# Altium footprint library Performance Logger1.PcbLib: 13 footprints
Each footprint in its own frame and in the unit in brackets; x right, y up, seen from the top. Pads: shape width x height; smd on the part's side, far side on the other; paste and mask are expansions set on the pad; w line width, h text height; cw(c..) or ccw(c..) is an arc to the next point about the centre after c.
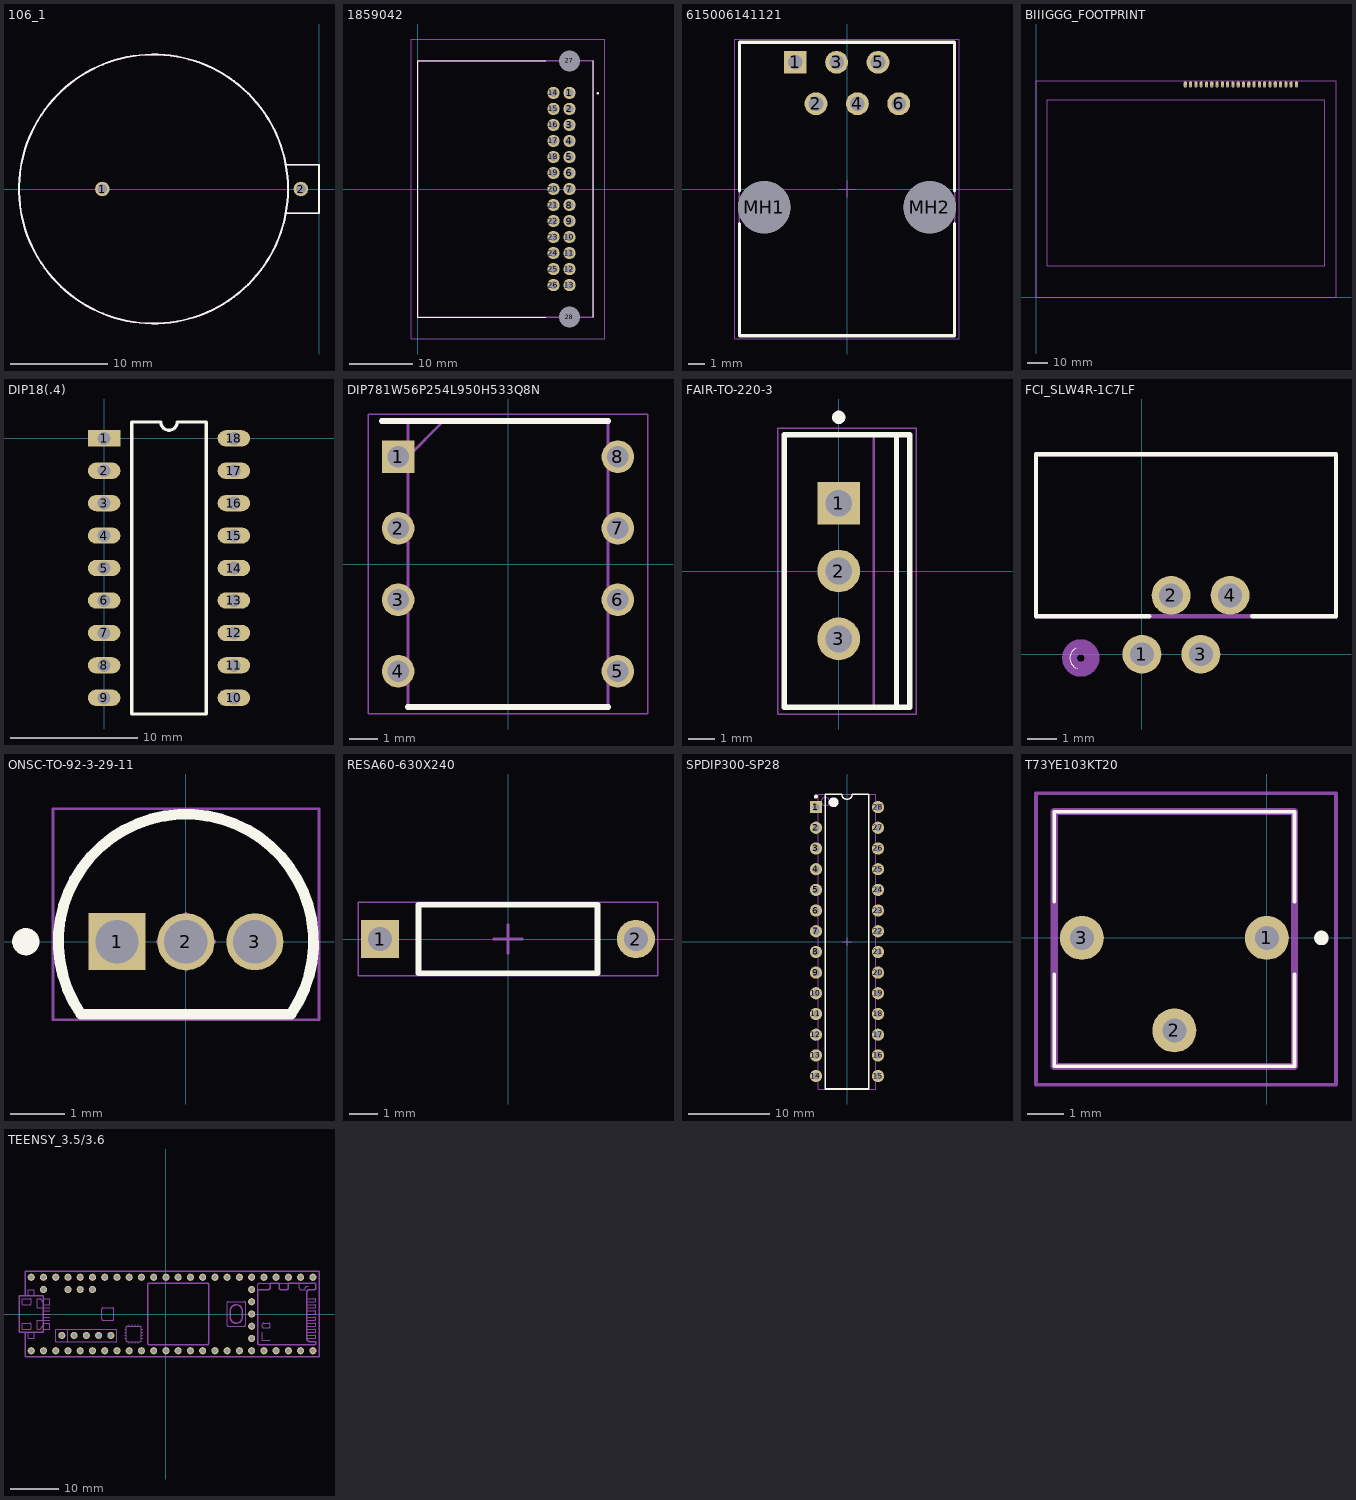
[diagram p0: the footprints below, top view; thin cyan lines are the x and y axes]

## 106_1 [mm]
pads (2):
  round 1.5 hole 1: 1(-22.365,0) 2(-1.865,0)
Top Overlay:
  circle w0.2: c-17.081,0 r13.881
  lines w0.2: -3.4,-2.5 0,-2.5 0,2.5 -3.4,2.5
Top 3D Body:
  circle w0.2: c-17.081,0 r13.881
  lines w0.2: -3.4,-2.5 0,-2.5 0,2.5 -3.4,2.5

## 1859042 [mm]
pads (28):
  round 1.95 hole 1.3: 1(24.1,15.24) 2(24.1,12.7) 3(24.1,10.16) 4(24.1,7.62) 5(24.1,5.08) 6(24.1,2.54) 7(24.1,0) 8(24.1,-2.54) 9(24.1,-5.08) 10(24.1,-7.62) 11(24.1,-10.16) 12(24.1,-12.7) 13(24.1,-15.24) 14(21.56,15.24) 15(21.56,12.7) 16(21.56,10.16) 17(21.56,7.62) 18(21.56,5.08) 19(21.56,2.54) 20(21.56,0) 21(21.56,-2.54) 22(21.56,-5.08) 23(21.56,-7.62) 24(21.56,-10.16) 25(21.56,-12.7) 26(21.56,-15.24)
  round 1.65 hole 3.3 unplated: 27(24.1,20.32) 28(24.1,-20.32)
Top Overlay:
  lines w0.1: 20.32,-20.32 0,-20.32 0,20.32 20.32,20.32 ; 27.9,-20.32 27.9,20.32
  lines w0.2: 28.6,15.1 ccw(c28.6,15.2) 28.6,15.3 ccw(c28.6,15.2) 28.6,15.1
Top 3D Body:
  lines w0.2: 0,-20.32 27.9,-20.32 27.9,20.32 0,20.32 0,-20.32
Mechanical 15:
  lines w0.1: -1,-23.795 29.7,-23.795 29.7,23.795 -1,23.795 -1,-23.795
3D body "185904-2.stp": height 16.96, standoff -3.74, extent -0.06,-24.19 27.84,24.05

## 615006141121 [mm] "Modular Jack Horizontal Plastic 6P6C Tab Down"
height 11.65
pads (8):
  rect 1.4x1.4 hole 0.9: 1(-3.175,7.77)
  round 1.4 hole 0.9: 2(-1.905,5.23) 3(-0.635,7.77) 4(0.635,5.23) 5(1.905,7.77) 6(3.175,5.23)
  round 3.2 hole 3.2 unplated: MH1(-5.08,-1.12) MH2(5.08,-1.12)
Top Overlay:
  lines w0.2: -6.6,-2.139 -6.6,-9 6.6,-9 6.6,-2.139 ; -6.6,-0.1 -6.6,9 6.6,9 6.6,-0.1
Top 3D Body:
  lines w0.1: -6.6,-9 -6.6,9 6.6,9 6.6,-9 -6.6,-9
Mechanical 15:
  lines w0.05: -0.5,0 0.5,0 ; 0,-0.5 0,0.5 ; -6.88,-9.2 -6.88,9.2 6.88,9.2 6.88,-9.2 -6.88,-9.2
3D body "615006141121.stp": height 11.73, standoff -3.22, extent -6.6,-9 6.6,9

## BIIIGGG_FOOTPRINT [mm] "BIIIGGG_FOOTPRINT"
pads (22):
  oval 1.508x3.016 / inner round 0 / far side oval 1.508x3.016 hole 1 copper offset 0,0.754: P1(125,101.46) P2(122.46,101.46) P3(119.92,101.46) P4(117.38,101.46) P5(114.84,101.46) P6(112.3,101.46) P7(109.76,101.46) P8(107.22,101.46) P9(104.68,101.46) P10(102.14,101.46) P11(99.6,101.46) P12(97.06,101.46) P13(94.52,101.46) P14(91.98,101.46) P15(89.44,101.46) P16(86.9,101.46) P17(84.36,101.46) P18(81.82,101.46) P19(79.28,101.46) P20(76.74,101.46) P21(74.2,101.46) P22(71.66,101.46)
Mechanical 8:
  lines w0.127: 0,0 0,104 144,104 144,0 0,0 ; 5.4,15.1 127.8,15.1 138.6,15.1 138.6,94.9 127.8,94.9 5.4,94.9 5.4,15.1
3D body: height 1.27, standoff 0, extent 70.899,100.7 72.421,103.729
3D body: height 1.27, standoff 0, extent 73.439,100.7 74.961,103.729
3D body: height 1.27, standoff 0, extent 75.979,100.7 77.501,103.729
3D body: height 1.27, standoff 0, extent 78.519,100.7 80.041,103.729
3D body: height 1.27, standoff 0, extent 81.059,100.7 82.581,103.729
3D body: height 1.27, standoff 0, extent 83.599,100.7 85.121,103.729
3D body: height 1.27, standoff 0, extent 86.139,100.7 87.661,103.729
3D body: height 1.27, standoff 0, extent 88.679,100.7 90.201,103.729
3D body: height 1.27, standoff 0, extent 91.219,100.7 92.741,103.729
3D body: height 1.27, standoff 0, extent 93.759,100.7 95.281,103.729
3D body: height 1.27, standoff 0, extent 96.299,100.7 97.821,103.729
3D body: height 1.27, standoff 0, extent 98.839,100.7 100.361,103.729
3D body: height 1.27, standoff 0, extent 101.379,100.7 102.901,103.729
3D body: height 1.27, standoff 0, extent 103.919,100.7 105.441,103.729
3D body: height 1.27, standoff 0, extent 106.459,100.7 107.981,103.729
3D body: height 1.27, standoff 0, extent 108.999,100.7 110.521,103.729
3D body: height 1.27, standoff 0, extent 111.539,100.7 113.061,103.729
3D body: height 1.27, standoff 0, extent 114.079,100.7 115.601,103.729
3D body: height 1.27, standoff 0, extent 116.619,100.7 118.141,103.729
3D body: height 1.27, standoff 0, extent 119.159,100.7 120.681,103.729
3D body: height 1.27, standoff 0, extent 121.699,100.7 123.221,103.729
3D body: height 1.27, standoff 0, extent 124.239,100.7 125.761,103.729
3D body "BiggDisplay.STEP": height 22.29, standoff 11.32, extent 0.222,0.013 144.222,104.013

## DIP18(.4) [mil]
pads (18):
  rect 100x50 hole 40: 1(0,0)
  oval 100x50 hole 40: 2(0,-100) 3(0,-200) 4(0,-300) 5(0,-400) 6(0,-500) 7(0,-600) 8(0,-700) 9(0,-800) 10(400,-800) 11(400,-700) 12(400,-600) 13(400,-500) 14(400,-400) 15(400,-300) 16(400,-200) 17(400,-100) 18(400,0)
Top Overlay:
  lines w10: 85,-850 85,50 175,50 ccw(c200,50) 225,50 315,50 315,-850 85,-850

## DIP781W56P254L950H533Q8N [mm]
pads (8):
  rect 1.159x1.159 hole 0.759: 1(-3.905,3.81)
  round 1.159 hole 0.759: 2(-3.905,1.27) 3(-3.905,-1.27) 4(-3.905,-3.81) 5(3.905,-3.81) 6(3.905,-1.27) 7(3.905,1.27) 8(3.905,3.81)
Top Overlay:
  lines w0.2: -4.485,5.08 3.556,5.08 ; -3.556,-5.08 3.556,-5.08
Top 3D Body:
  lines w0.1: -3.556,3.81 -2.286,5.08 ; -3.556,-5.08 -3.556,5.08 3.556,5.08 3.556,-5.08 -3.556,-5.08
Mechanical 15:
  lines w0.05: -4.957,-5.33 -4.957,5.33 4.957,5.33 4.957,-5.33 -4.957,-5.33
3D body "MCP2562FD-E_P.stp": height 5.33, standoff -3.5, extent -4.045,-4.75 4.045,4.75

## FAIR-TO-220-3 [mm] "FM, 3-Leads, Body 10.2x4.7mm, Pitch 2.54mm"
height 18.95
pads (3):
  rect 1.6x1.6 hole 1: 1(0,2.54)
  round 1.6 hole 1: 2(0,0) 3(0,-2.54)
Top Overlay:
  circle w0.25: c0,5.75 r0.125
  lines w0.2: 2.16,-5.1 2.16,5.1 ; -2.04,-5.1 2.66,-5.1 2.66,5.1 -2.04,5.1 -2.04,-5.1
Top 3D Body:
  lines w0.1: 1.31,-5.1 1.31,5.1 ; -2.04,-5.1 -2.04,5.1 2.66,5.1 2.66,-5.1 -2.04,-5.1
Mechanical 15:
  lines w0.05: -2.29,-5.35 -2.29,5.35 2.91,5.35 2.91,-5.35 -2.29,-5.35
  lines w0.1: -0.5,0 0.5,0 ; 0,-0.5 0,0.5
3D body: height 3, standoff 0, extent -0.265,1.78 0.265,3.3
3D body: height 0, standoff -1.6, extent -0.265,2.14 0.265,2.94
3D body: height 3, standoff 0, extent -0.265,-0.76 0.265,0.76
3D body: height 0, standoff -1.6, extent -0.265,-0.4 0.265,0.4
3D body: height 3, standoff 0, extent -0.265,-3.3 0.265,-1.78
3D body: height 0, standoff -1.6, extent -0.265,-2.94 0.265,-2.14
3D body: height 12.2, standoff 3, extent -2.04,-5.1 2.66,5.1
3D body: height 14.35, standoff 12.2, extent 1.31,-4.95 2.66,4.95
3D body: height 14.39, standoff 14.35, extent 1.31,0.351 2.66,4.95
3D body: height 14.39, standoff 14.35, extent 1.31,-4.95 2.66,-0.351
3D body: height 17.95, standoff 17.92, extent 1.31,0.351 2.66,4.95
3D body: height 17.95, standoff 17.92, extent 1.31,-4.95 2.66,-0.351
3D body: height 14.49, standoff 14.38, extent 1.31,0.689 2.66,4.95
3D body: height 14.49, standoff 14.38, extent 1.31,-4.95 2.66,-0.689
3D body: height 17.92, standoff 17.81, extent 1.31,0.689 2.66,4.95
3D body: height 17.92, standoff 17.81, extent 1.31,-4.95 2.66,-0.689
3D body: height 14.66, standoff 14.49, extent 1.31,1 2.66,4.95
3D body: height 14.66, standoff 14.49, extent 1.31,-4.95 2.66,-1
3D body: height 17.82, standoff 17.65, extent 1.31,1 2.66,4.95
3D body: height 17.82, standoff 17.65, extent 1.31,-4.95 2.66,-1
3D body: height 14.88, standoff 14.65, extent 1.31,1.273 2.66,4.95
3D body: height 14.88, standoff 14.65, extent 1.31,-4.95 2.66,-1.273
3D body: height 17.65, standoff 17.42, extent 1.31,1.273 2.66,4.95
3D body: height 17.65, standoff 17.42, extent 1.31,-4.95 2.66,-1.273
3D body: height 15.15, standoff 14.88, extent 1.31,1.497 2.66,4.95
3D body: height 15.15, standoff 14.88, extent 1.31,-4.95 2.66,-1.497
3D body: height 17.43, standoff 17.15, extent 1.31,1.497 2.66,4.95
3D body: height 17.43, standoff 17.15, extent 1.31,-4.95 2.66,-1.497
3D body: height 15.47, standoff 15.15, extent 1.31,1.663 2.66,4.95
3D body: height 15.47, standoff 15.15, extent 1.31,-4.95 2.66,-1.663
3D body: height 17.16, standoff 16.84, extent 1.31,1.663 2.66,4.95
3D body: height 17.16, standoff 16.84, extent 1.31,-4.95 2.66,-1.663
3D body: height 15.8, standoff 15.46, extent 1.31,1.765 2.66,4.95
3D body: height 15.8, standoff 15.46, extent 1.31,-4.95 2.66,-1.765
3D body: height 16.84, standoff 16.5, extent 1.31,1.765 2.66,4.95
3D body: height 16.84, standoff 16.5, extent 1.31,-4.95 2.66,-1.765
3D body: height 16.15, standoff 15.8, extent 1.31,1.8 2.66,4.95
3D body: height 16.15, standoff 15.8, extent 1.31,-4.95 2.66,-1.8
3D body: height 16.51, standoff 16.15, extent 1.31,1.8 2.66,4.95
3D body: height 16.51, standoff 16.15, extent 1.31,-4.95 2.66,-1.8
3D body: height 18.95, standoff 17.95, extent 1.31,-4.95 2.66,4.95

## FCI_SLW4R-1C7LF [mil]
pads (4):
  round 52 hole 32: 1(0,0) 2(39,79) 3(79,0) 4(118,79)
Top Overlay:
  lines w0: -88.95,8.03 ccw(c-81.99,-5.05) -87.06,-18.98
  lines w6: 10,51 -142,51 -142,268 260,268 260,51 148,51
Top 3D Body:
  lines w6: -142,51 -142,268 260,268 260,51 -142,51
  lines w20: -97,-5 cw(c-82,-5) -67,-5 cw(c-82,-5) -97,-5

## ONSC-TO-92-3-29-11 [mm] "TO, 3-Leads, Body Dia 4.7mm, Pitch 1.27mm"
height 7.87
pads (3):
  rect 1.05x1.05 hole 0.8: 1(-1.27,0)
  round 1.05 hole 0.8: 2(0,0) 3(1.27,0)
Top Overlay:
  circle w0.25: c-2.95,0 r0.125
  lines w0.2: -1.934,-1.335 cw(c0,0) 1.934,-1.335 -1.934,-1.335
Top 3D Body:
  lines w0.1: -1.934,-1.335 cw(c0,0) 1.934,-1.335 -1.934,-1.335
Mechanical 15:
  lines w0.05: -2.45,-1.435 -2.45,2.45 2.45,2.45 2.45,-1.435 -2.45,-1.435
  lines w0.1: -0.5,0 0.5,0 ; 0,-0.5 0,0.5
3D body: height 7.87, standoff 2.54, extent -2.349,-1.334 2.357,2.359

## RESA60-630X240 [mm] "Axial Resistor, 2-Leads, Dia 2.4mm, Body Length 6.3mm"
height 2.6
pads (2):
  rect 1.35x1.35 hole 0.85: 1(-4.5,0)
  round 1.35 hole 0.85: 2(4.5,0)
Top Overlay:
  lines w0.2: -3.15,-1.2 3.15,-1.2 3.15,1.2 -3.15,1.2 -3.15,-1.2
Top 3D Body:
  lines w0.1: -3.15,-1.2 -3.15,1.2 3.15,1.2 3.15,-1.2 -3.15,-1.2
Mechanical 15:
  lines w0.05: -5.275,-1.3 5.275,-1.3 5.275,1.3 -5.275,1.3 -5.275,-1.3
  lines w0.1: -0.5,0 0.5,0 ; 0,-0.5 0,0.5
3D body: height 2.4, standoff 0, extent -3.15,-1.2 3.15,1.2

## SPDIP300-SP28 [mm] "DIP, 28-Pin, Row Spacing 7.62 mm, Pitch 2.54 mm"
height 5.08
pads (28):
  rect 1.5x1.5 hole 0.9: 1(-3.81,16.51)
  round 1.5 hole 0.9: 2(-3.81,13.97) 3(-3.81,11.43) 4(-3.81,8.89) 5(-3.81,6.35) 6(-3.81,3.81) 7(-3.81,1.27) 8(-3.81,-1.27) 9(-3.81,-3.81) 10(-3.81,-6.35) 11(-3.81,-8.89) 12(-3.81,-11.43) 13(-3.81,-13.97) 14(-3.81,-16.51) 15(3.81,-16.51) 16(3.81,-13.97) 17(3.81,-11.43) 18(3.81,-8.89) 19(3.81,-6.35) 20(3.81,-3.81) 21(3.81,-1.27) 22(3.81,1.27) 23(3.81,3.81) 24(3.81,6.35) 25(3.81,8.89) 26(3.81,11.43) 27(3.81,13.97) 28(3.81,16.51)
Top Overlay:
  circle w0.6: c-1.65,17.1 r0.3
  circle w0.25: c-3.81,17.81 r0.125
  lines w0.2: -2.65,-18.1 2.65,-18.1 2.65,18.1 0.635,18.1 cw(c0,18.1) -0.635,18.1 -2.65,18.1 -2.65,-18.1
Top 3D Body:
  circle w0.1: c-2.65,17.2 r0.5
  lines w0.1: -3.55,-18.1 3.55,-18.1 3.55,18.1 -3.55,18.1 -3.55,-18.1
Mechanical 15:
  lines w0.1: -0.5,0 0.5,0 ; 0,-0.5 0,0.5
3D body: height 5.33, standoff 0, extent -3.55,-18.1 3.55,18.1

## T73YE103KT20 [mm]
pads (3):
  round 1.21 hole 0.66: 1(0,0) 2(-2.54,-2.54) 3(-5.08,0)
Top Overlay:
  lines w0.1: -5.84,-1 -5.84,-3.53 0.76,-3.53 0.76,-1 ; -5.84,1 -5.84,3.47 0.76,3.47 0.76,1
  lines w0.2: 1.5,-0.1 ccw(c1.5,0) 1.5,0.1 ccw(c1.5,0) 1.5,-0.1
Top 3D Body:
  lines w0.2: -5.84,-3.53 -5.84,3.47 0.76,3.47 0.76,-3.53 -5.84,-3.53
Mechanical 15:
  lines w0.1: -6.34,-4.03 -6.34,3.97 1.9,3.97 1.9,-4.03 -6.34,-4.03
3D body "T73YE103KT20.stp": height 4.8, standoff -5, extent -5.84,-3.53 0.76,3.47

## TEENSY_3.5/3.6 [mil] "TEENSY_3.5/3.6"
pads (62):
  round 58 / inner round 0 / far side round 58 hole 38: 0/RX(-1000,-300) 1/TX(-900,-300) 2(-800,-300) 3/CANTX(-700,-300) 3V3(300,-300) 3V3_2(700,-100) 3V3_LO(-900,300) 4/CANRX(-600,-300) 5(-500,-300) 6(-400,-300) 7(-300,-300) 8(-200,-300) 9/CS(-100,-300) 10/CS(0,-300) 11/MOSI(100,-300) 12/MISO(200,-300) 13/SCK(200,300) 14/A0(100,300) 15/A1(0,300) 16/A2(-100,300) 17/A3(-200,300) 18/A4/SDA(-300,300) 19/A5/SCL(-400,300) 20/A6(-500,300) 21/A7(-600,300) 21/DAC0(500,300) 22/A8(-700,300) 23/A9(-800,300) 24(400,-300) 25(500,-300) 26(600,-300) 27(700,-300) 28(800,-300) 29(900,-300) 30(1000,-300) 31/A12(1100,-300) 32/A13(1200,-300) 33/A14(1200,300) 34/A15(1100,300) 35/A16(1000,300) 36/A17(900,300) 37/A18(800,300) 38/A19(700,300) 39/A20(600,300) A10(-700,200) A11(-600,200) A22/DAC1(400,300) AGND(-1000,300) AREF(-800,200) GND(-1100,-300) GND2(300,300) GND3(700,0) PROG(700,100) RESET(700,200) U5V(-850,-175) UD+(-650,-175) UD-(-750,-175) UGND1(-550,-175) UGND2(-450,-175) VBAT(700,-200) VIN(-1100,300) VUSB(-1000,200)
Mechanical 7:
  drawing of 235 lines, arcs and shapes, not listed
  text "TEENSY" at 106.25,43.75 h108.5
  text "3.6" at 106.25,-43.75 h108.5
3D body: height 50, standoff 0, extent -929.25,-329.25 -870.75,-270.75
3D body: height 50, standoff 0, extent -829.25,-329.25 -770.75,-270.75
3D body: height 50, standoff 0, extent -729.25,-329.25 -670.75,-270.75
3D body: height 50, standoff 0, extent -629.25,-329.25 -570.75,-270.75
3D body: height 50, standoff 0, extent -529.25,-329.25 -470.75,-270.75
3D body: height 50, standoff 0, extent -429.25,-329.25 -370.75,-270.75
3D body: height 50, standoff 0, extent -329.25,-329.25 -270.75,-270.75
3D body: height 50, standoff 0, extent -229.25,-329.25 -170.75,-270.75
3D body: height 50, standoff 0, extent -129.25,-329.25 -70.75,-270.75
3D body: height 50, standoff 0, extent -29.25,-329.25 29.25,-270.75
3D body: height 50, standoff 0, extent 70.75,-329.25 129.25,-270.75
3D body: height 50, standoff 0, extent 170.75,-329.25 229.25,-270.75
3D body: height 50, standoff 0, extent 170.75,270.75 229.25,329.25
3D body: height 50, standoff 0, extent 70.75,270.75 129.25,329.25
3D body: height 50, standoff 0, extent -29.25,270.75 29.25,329.25
3D body: height 50, standoff 0, extent -129.25,270.75 -70.75,329.25
3D body: height 50, standoff 0, extent -229.25,270.75 -170.75,329.25
3D body: height 50, standoff 0, extent -329.25,270.75 -270.75,329.25
3D body: height 50, standoff 0, extent -429.25,270.75 -370.75,329.25
3D body: height 50, standoff 0, extent -529.25,270.75 -470.75,329.25
3D body: height 50, standoff 0, extent -629.25,270.75 -570.75,329.25
3D body: height 50, standoff 0, extent -729.25,270.75 -670.75,329.25
3D body: height 50, standoff 0, extent -829.25,270.75 -770.75,329.25
3D body: height 50, standoff 0, extent -1029.25,-329.25 -970.75,-270.75
3D body: height 50, standoff 0, extent -929.25,270.75 -870.75,329.25
3D body: height 50, standoff 0, extent -1029.25,270.75 -970.75,329.25
3D body: height 50, standoff 0, extent -1129.25,-329.25 -1070.75,-270.75
3D body: height 50, standoff 0, extent -1129.25,270.75 -1070.75,329.25
3D body: height 50, standoff 0, extent 270.75,-329.25 329.25,-270.75
3D body: height 50, standoff 0, extent 270.75,270.75 329.25,329.25
3D body: height 50, standoff 0, extent 370.75,-329.25 429.25,-270.75
3D body: height 50, standoff 0, extent 470.75,-329.25 529.25,-270.75
3D body: height 50, standoff 0, extent 570.75,-329.25 629.25,-270.75
3D body: height 50, standoff 0, extent 670.75,-329.25 729.25,-270.75
3D body: height 50, standoff 0, extent 770.75,-329.25 829.25,-270.75
3D body: height 50, standoff 0, extent 870.75,-329.25 929.25,-270.75
3D body: height 50, standoff 0, extent 970.75,-329.25 1029.25,-270.75
3D body: height 50, standoff 0, extent 1070.75,-329.25 1129.25,-270.75
3D body: height 50, standoff 0, extent 1170.75,-329.25 1229.25,-270.75
3D body: height 50, standoff 0, extent 1170.75,270.75 1229.25,329.25
3D body: height 50, standoff 0, extent 1070.75,270.75 1129.25,329.25
3D body: height 50, standoff 0, extent 970.75,270.75 1029.25,329.25
3D body: height 50, standoff 0, extent 870.75,270.75 929.25,329.25
3D body: height 50, standoff 0, extent 770.75,270.75 829.25,329.25
3D body: height 50, standoff 0, extent 670.75,270.75 729.25,329.25
3D body: height 50, standoff 0, extent 570.75,270.75 629.25,329.25
3D body: height 50, standoff 0, extent 470.75,270.75 529.25,329.25
3D body: height 50, standoff 0, extent 370.75,270.75 429.25,329.25
3D body: height 50, standoff 0, extent 670.75,-229.25 729.25,-170.75
3D body: height 50, standoff 0, extent 670.75,-29.25 729.25,29.25
3D body: height 50, standoff 0, extent 670.75,70.75 729.25,129.25
3D body: height 50, standoff 0, extent 670.75,-129.25 729.25,-70.75
3D body: height 50, standoff 0, extent 670.75,170.75 729.25,229.25
3D body: height 50, standoff 0, extent -1029.25,170.75 -970.75,229.25
3D body: height 50, standoff 0, extent -829.25,170.75 -770.75,229.25
3D body: height 50, standoff 0, extent -729.25,170.75 -670.75,229.25
3D body: height 50, standoff 0, extent -629.25,170.75 -570.75,229.25
3D body: height 50, standoff 0, extent -879.25,-204.25 -820.75,-145.75
3D body: height 50, standoff 0, extent -779.25,-204.25 -720.75,-145.75
3D body: height 50, standoff 0, extent -679.25,-204.25 -620.75,-145.75
3D body: height 50, standoff 0, extent -579.25,-204.25 -520.75,-145.75
3D body: height 50, standoff 0, extent -479.25,-204.25 -420.75,-145.75